# EAGLE library part DSPIC33FJ256MC710 (library 33FJ256MC710)
dsPIC33FJ256MC710 High-Performance, 16-Bit Digital Signal Controller Package Marking Information: 100-Lead TQFP (14x14x1mm) dsPIC33FJ256MC710-I/PF
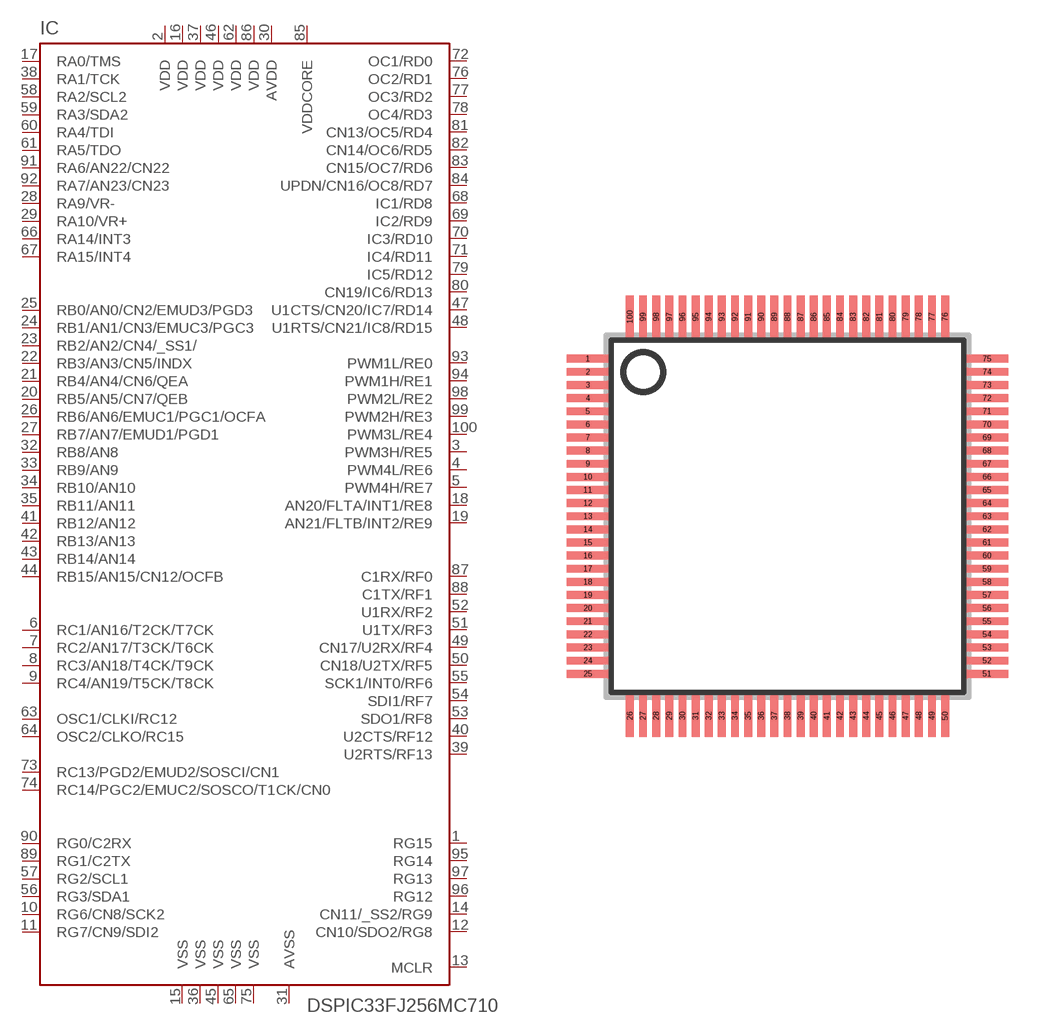
[diagram p0: symbol with the pads of TQFP-100; footprint TQFP-100]

Designator prefix IC

## DSPIC33FJ256MC710-I/PF  [TQFP-100]
1  RG15
2  VDD  pwr
3  PWM3H/RE5
4  PWM4L/RE6
5  PWM4H/RE7
6  RC1/AN16/T2CK/T7CK
7  RC2/AN17/T3CK/T6CK
8  RC3/AN18/T4CK/T9CK
9  RC4/AN19/T5CK/T8CK
10  RG6/CN8/SCK2
11  RG7/CN9/SDI2
12  CN10/SDO2/RG8
13  MCLR  in
14  CN11/_SS2/RG9
15  VSS  sup
16  VDD  pwr
17  RA0/TMS
18  AN20/FLTA/INT1/RE8
19  AN21/FLTB/INT2/RE9
20  RB5/AN5/CN7/QEB
21  RB4/AN4/CN6/QEA
22  RB3/AN3/CN5/INDX
23  RB2/AN2/CN4/_SS1/
24  RB1/AN1/CN3/EMUC3/PGC3
25  RB0/AN0/CN2/EMUD3/PGD3
26  RB6/AN6/EMUC1/PGC1/OCFA
27  RB7/AN7/EMUD1/PGD1
28  RA9/VR-
29  RA10/VR+
30  AVDD  pwr
31  AVSS  sup
32  RB8/AN8
33  RB9/AN9
34  RB10/AN10
35  RB11/AN11
36  VSS  sup
37  VDD  pwr
38  RA1/TCK
39  U2RTS/RF13
40  U2CTS/RF12
41  RB12/AN12
42  RB13/AN13
43  RB14/AN14
44  RB15/AN15/CN12/OCFB
45  VSS  sup
46  VDD  pwr
47  U1CTS/CN20/IC7/RD14
48  U1RTS/CN21/IC8/RD15
49  CN17/U2RX/RF4
50  CN18/U2TX/RF5
51  U1TX/RF3
52  U1RX/RF2
53  SDO1/RF8
54  SDI1/RF7
55  SCK1/INT0/RF6
56  RG3/SDA1
57  RG2/SCL1
58  RA2/SCL2
59  RA3/SDA2
60  RA4/TDI
61  RA5/TDO
62  VDD  pwr
63  OSC1/CLKI/RC12
64  OSC2/CLKO/RC15
65  VSS  sup
66  RA14/INT3
67  RA15/INT4
68  IC1/RD8
69  IC2/RD9
70  IC3/RD10
71  IC4/RD11
72  OC1/RD0
73  RC13/PGD2/EMUD2/SOSCI/CN1
74  RC14/PGC2/EMUC2/SOSCO/T1CK/CN0
75  VSS  sup
76  OC2/RD1
77  OC3/RD2
78  OC4/RD3
79  IC5/RD12
80  CN19/IC6/RD13
81  CN13/OC5/RD4
82  CN14/OC6/RD5
83  CN15/OC7/RD6
84  UPDN/CN16/OC8/RD7
85  VDDCORE  pas
86  VDD  pwr
87  C1RX/RF0
88  C1TX/RF1
89  RG1/C2TX
90  RG0/C2RX
91  RA6/AN22/CN22
92  RA7/AN23/CN23
93  PWM1L/RE0
94  PWM1H/RE1
95  RG14
96  RG12
97  RG13
98  PWM2L/RE2
99  PWM2H/RE3
100  PWM3L/RE4

## Footprint TQFP-100 (pad centres in mm)
100-Lead Plastic Thin Quad Flatpack (PF) - 14x14x1 mm Body, 2.00 mm Footprint [TQFP] Note: For the most current package drawings, please see the Microchip Packaging Specification located at http://www.microchip.com/packaging
smd 1.6 x 0.3: 1 -7.52,5.92; 2 -7.52,5.42; 3 -7.52,4.92; 4 -7.52,4.42; 5 -7.52,3.92; 6 -7.52,3.42; 7 -7.52,2.92; 8 -7.52,2.42; 9 -7.52,1.92; 10 -7.52,1.42; 11 -7.52,0.92; 12 -7.52,0.42; 13 -7.52,-0.08; 14 -7.52,-0.58; 15 -7.52,-1.08; 16 -7.52,-1.58; 17 -7.52,-2.08; 18 -7.52,-2.58; 19 -7.52,-3.08; 20 -7.52,-3.58; 21 -7.52,-4.08; 22 -7.52,-4.58; 23 -7.52,-5.08; 24 -7.52,-5.58; 25 -7.52,-6.08; 51 7.68,-6.08; 52 7.68,-5.58; 53 7.68,-5.08; 54 7.68,-4.58; 55 7.68,-4.08; 56 7.68,-3.58; 57 7.68,-3.08; 58 7.68,-2.58; 59 7.68,-2.08; 60 7.68,-1.58; 61 7.68,-1.08; 62 7.68,-0.58; 63 7.68,-0.08; 64 7.68,0.42; 65 7.68,0.92; 66 7.68,1.42; 67 7.68,1.92; 68 7.68,2.42; 69 7.68,2.92; 70 7.68,3.42; 71 7.68,3.92; 72 7.68,4.42; 73 7.68,4.92; 74 7.68,5.42; 75 7.68,5.92
smd 0.3 x 1.6: 26 -5.92,-7.68; 27 -5.42,-7.68; 28 -4.92,-7.68; 29 -4.42,-7.68; 30 -3.92,-7.68; 31 -3.42,-7.68; 32 -2.92,-7.68; 33 -2.42,-7.68; 34 -1.92,-7.68; 35 -1.42,-7.68; 36 -0.92,-7.68; 37 -0.42,-7.68; 38 0.08,-7.68; 39 0.58,-7.68; 40 1.08,-7.68; 41 1.58,-7.68; 42 2.08,-7.68; 43 2.58,-7.68; 44 3.08,-7.68; 45 3.58,-7.68; 46 4.08,-7.68; 47 4.58,-7.68; 48 5.08,-7.68; 49 5.58,-7.68; 50 6.08,-7.68; 76 6.08,7.52; 77 5.58,7.52; 78 5.08,7.52; 79 4.58,7.52; 80 4.08,7.52; 81 3.58,7.52; 82 3.08,7.52; 83 2.58,7.52; 84 2.08,7.52; 85 1.58,7.52; 86 1.08,7.52; 87 0.58,7.52; 88 0.08,7.52; 89 -0.42,7.52; 90 -0.92,7.52; 91 -1.42,7.52; 92 -1.92,7.52; 93 -2.42,7.52; 94 -2.92,7.52; 95 -3.42,7.52; 96 -3.92,7.52; 97 -4.42,7.52; 98 -4.92,7.52; 99 -5.42,7.52; 100 -5.92,7.52